# Altium schematic symbol library cstce12m0g52a_r0.SchLib: 1 symbol
Pins are listed as number, name and electrical type; pins without a type are passive.

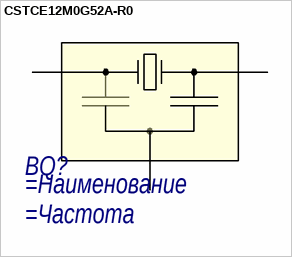
[diagram p0: symbol CSTCE12M0G52A-R0]

## CSTCE12M0G52A-R0
designator BQ?
=Описание; Частотa: =Частота
pins: 1, 2, 3